# Altium footprint library ZH1.5.PcbLib: 63 footprints (part 4 of 4)
Each footprint in its own frame and in the unit in brackets; x right, y up, seen from the top. Pads: shape width x height; smd on the part's side, far side on the other; paste and mask are expansions set on the pad; w line width, h text height; cw(c..) or ccw(c..) is an arc to the next point about the centre after c.
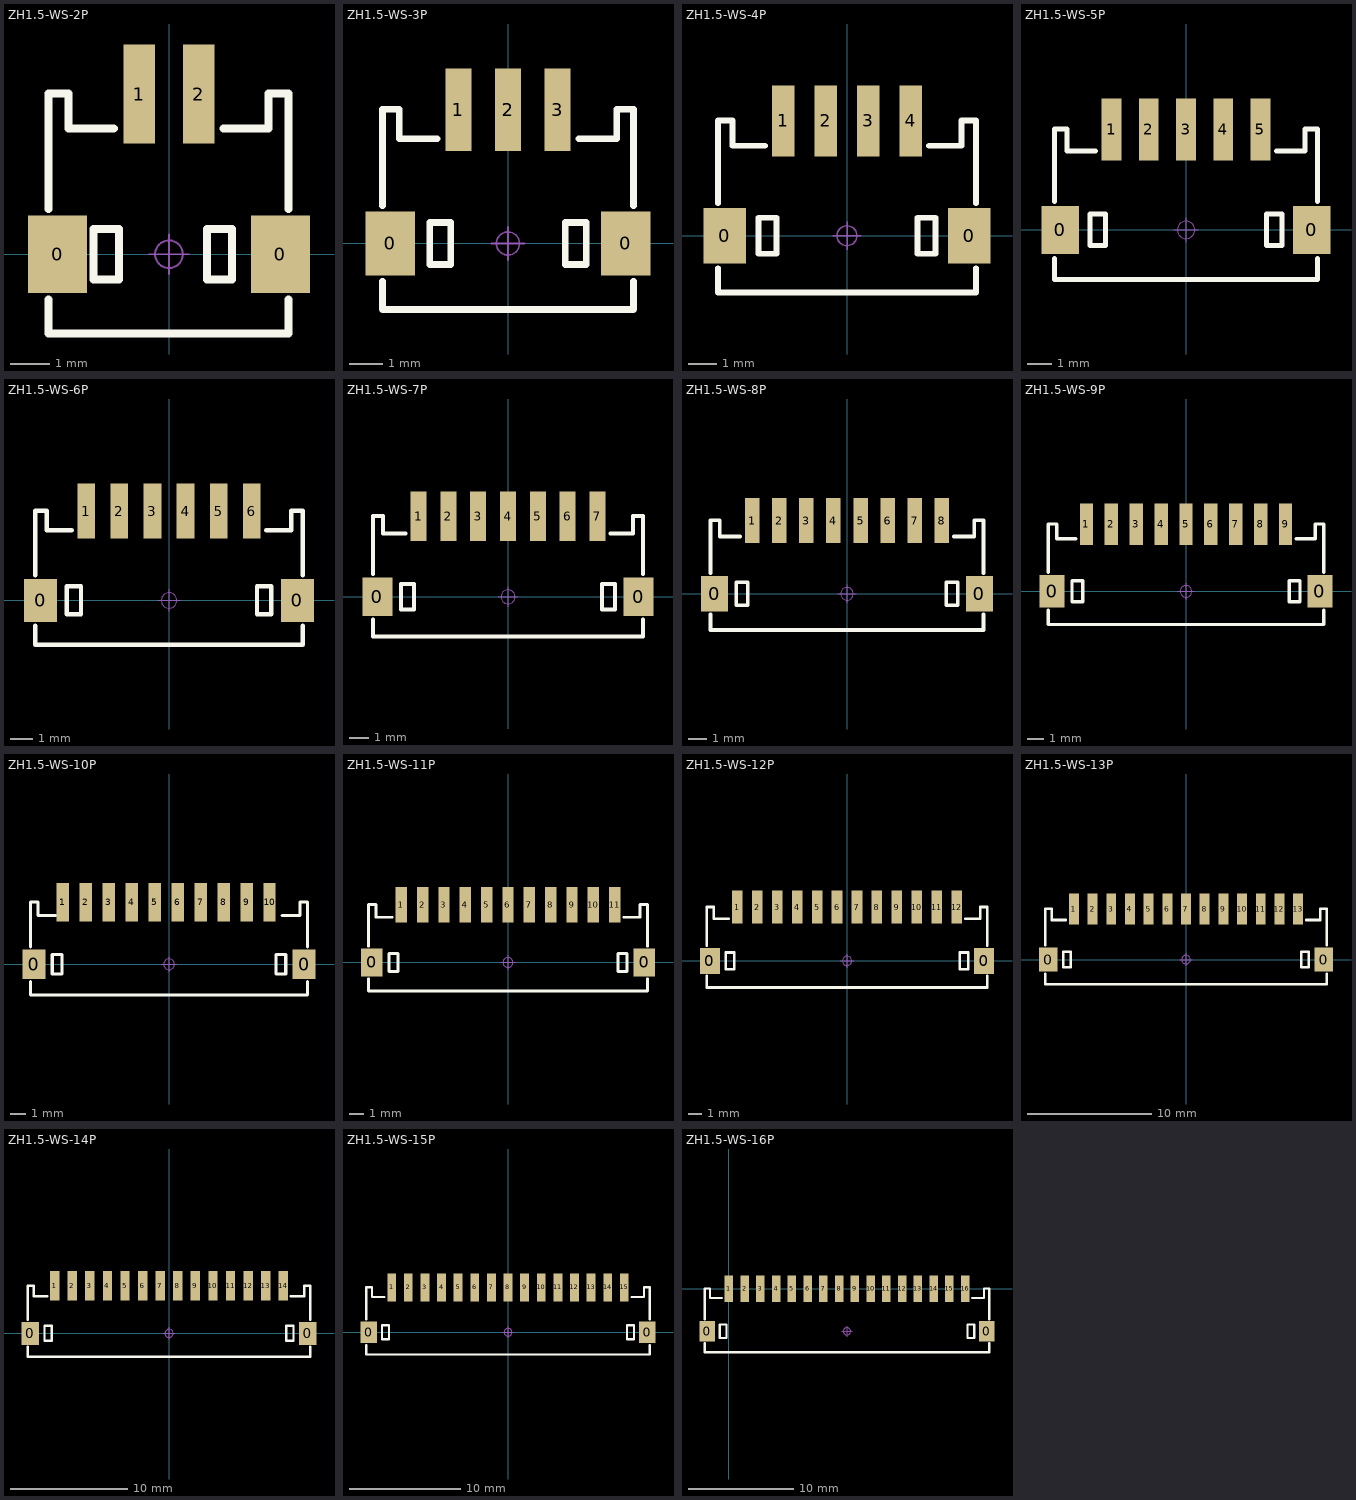
[diagram p3: the footprints below, top view; thin cyan lines are the x and y axes]

## ZH1.5-WS-2P [mm] "长：6.1mm，宽：2.5mm，高：3.7mm"
pads (4):
  rect 1.5x1.95 smd: 0(-2.818,0) 0(2.818,0)
  rect 0.8x2.5 smd: 1(-0.75,4.05) 2(0.75,4.05)
Top Overlay:
  lines w0.203: -3.048,-1.143 -3.05,-1.143 -3.05,-2 3.026,-2 3.026,-1.143 3.024,-1.143 ; -3.048,1.143 -3.05,1.143 -3.05,4.064 -2.54,4.064 -2.54,3.175 -1.397,3.175 ; 1.373,3.175 2.516,3.175 2.516,4.064 3.026,4.064 3.026,1.143 3.024,1.143 ; -1.905,-0.635 -1.905,0.635 -1.27,0.635 -1.27,-0.635 -1.905,-0.635 ; 0.961,-0.635 1.596,-0.635 1.596,0.635 0.961,0.635 0.961,-0.635
Mechanical 15:
  circle w0.05: c0,0 r0.35
  lines w0.05: -0.5,0 0.5,0 ; 0,-0.5 0,0.5
3D body "ZH1.5-WS-2P.STEP": height 3.75, standoff 0, extent -3.05,-2 3.05,4.6

## ZH1.5-WS-3P [mm] "长：7.6mm，宽：6.0mm，高：3.7mm"
pads (5):
  rect 1.5x1.95 smd: 0(-3.568,0) 0(3.568,0)
  rect 0.8x2.5 smd: 1(-1.5,4.05) 2(0,4.05) 3(1.5,4.05)
Top Overlay:
  lines w0.203: -3.798,-2 -3.8,-2 ; -3.798,-1.143 -3.8,-1.143 -3.8,-2 ; -3.798,1.143 -3.8,1.143 -3.8,4.064 -3.29,4.064 -3.29,3.175 -2.147,3.175 ; 2.147,3.175 3.29,3.175 3.29,4.064 3.8,4.064 3.8,1.143 3.798,1.143 ; 3.798,-2 3.8,-2 ; 3.798,-1.143 3.8,-1.143 3.8,-2 ; -3.8,-2 3.8,-2 ; 3.8,-2 3.8,-2 ; -2.37,-0.635 -2.37,0.635 -1.735,0.635 -1.735,-0.635 -2.37,-0.635 ; 1.735,-0.635 2.37,-0.635 2.37,0.635 1.735,0.635 1.735,-0.635
Mechanical 15:
  circle w0.05: c0,0 r0.35
  lines w0.05: -0.5,0 0.5,0 ; 0,-0.5 0,0.5
3D body "ZH1.5-WS-3P.STEP": height 3.75, standoff 0, extent -3.8,-2 3.8,4.6

## ZH1.5-WS-4P [mm] "长：9.1mm，宽：6.0mm，高：3.7mm"
pads (6):
  rect 1.5x1.95 smd: 0(-4.318,0) 0(4.318,0)
  rect 0.8x2.5 smd: 1(-2.25,4.05) 2(-0.75,4.05) 3(0.75,4.05) 4(2.25,4.05)
Top Overlay:
  lines w0.203: -4.548,-2 -4.55,-2 ; -4.548,-1.143 -4.55,-1.143 -4.55,-2 ; -4.548,1.143 -4.55,1.143 -4.55,4.064 -4.04,4.064 -4.04,3.175 -2.897,3.175 ; 2.897,3.175 4.04,3.175 4.04,4.064 4.55,4.064 4.55,1.143 4.548,1.143 ; 4.548,-1.143 4.55,-1.143 4.55,-2 4.548,-2 -4.55,-2 ; -3.12,-0.635 -2.485,-0.635 -2.485,0.635 -3.12,0.635 -3.12,-0.635 ; 2.485,-0.635 3.12,-0.635 3.12,0.635 2.485,0.635 2.485,-0.635
Mechanical 15:
  circle w0.05: c0,0 r0.35
  lines w0.05: -0.5,0 0.5,0 ; 0,-0.5 0,0.5
3D body "ZH1.5-WS-4P.STEP": height 3.75, standoff 0, extent -4.55,-2 4.55,4.6

## ZH1.5-WS-5P [mm] "长：10.6mm，宽：6.0mm，高：3.7mm"
pads (7):
  rect 1.5x1.95 smd: 0(-5.068,0) 0(5.068,0)
  rect 0.8x2.5 smd: 1(-3,4.05) 2(-1.5,4.05) 3(0,4.05) 4(1.5,4.05) 5(3,4.05)
Top Overlay:
  lines w0.203: -5.298,-2 -5.3,-2 ; -5.298,-1.143 -5.3,-1.143 -5.3,-2 ; -5.298,1.143 -5.3,1.143 -5.3,4.064 -4.79,4.064 -4.79,3.175 -3.647,3.175 ; 3.647,3.175 4.79,3.175 4.79,4.064 5.3,4.064 5.3,1.143 5.298,1.143 ; 5.298,-2 5.3,-2 ; 5.298,-1.143 5.3,-1.143 5.3,-2 ; -5.3,-2 5.3,-2 ; -3.87,-0.635 -3.235,-0.635 -3.235,0.635 -3.87,0.635 -3.87,-0.635 ; 3.235,-0.635 3.87,-0.635 3.87,0.635 3.235,0.635 3.235,-0.635
Mechanical 15:
  circle w0.05: c0,0 r0.35
  lines w0.05: -0.5,0 0.5,0 ; 0,-0.5 0,0.5
3D body "ZH1.5-WS-5P.STEP": height 3.75, standoff 0, extent -5.3,-2 5.3,4.6

## ZH1.5-WS-6P [mm] "长：12.1mm，宽：6.0mm，高：3.7mm"
pads (8):
  rect 1.5x1.95 smd: 0(-5.818,0) 0(5.818,0)
  rect 0.8x2.5 smd: 1(-3.75,4.05) 2(-2.25,4.05) 3(-0.75,4.05) 4(0.75,4.05) 5(2.25,4.05) 6(3.75,4.05)
Top Overlay:
  lines w0.203: -6.048,-1.143 -6.05,-1.143 -6.05,-2 -6.048,-2 6.05,-2 ; -6.048,1.143 -6.05,1.143 -6.05,4.064 -5.54,4.064 -5.54,3.175 -4.397,3.175 ; 4.397,3.175 5.54,3.175 5.54,4.064 6.05,4.064 6.05,1.143 6.048,1.143 ; 6.048,-2 6.05,-2 ; 6.048,-1.143 6.05,-1.143 6.05,-2 ; -4.62,-0.635 -3.985,-0.635 -3.985,0.635 -4.62,0.635 -4.62,-0.635 ; 3.985,-0.635 3.985,0.635 4.62,0.635 4.62,-0.635 3.985,-0.635
Mechanical 15:
  circle w0.05: c0,0 r0.35
  lines w0.05: -0.5,0 0.5,0 ; 0,-0.5 0,0.5
3D body "ZH1.5-WS-6P.STEP": height 3.75, standoff 0, extent -6.05,-2 6.05,4.6

## ZH1.5-WS-7P [mm] "长：13.6mm，宽：6.0mm，高：3.7mm"
pads (9):
  rect 1.5x1.95 smd: 0(-6.568,0) 0(6.568,0)
  rect 0.8x2.5 smd: 1(-4.5,4.05) 2(-3,4.05) 3(-1.5,4.05) 4(0,4.05) 5(1.5,4.05) 6(3,4.05) 7(4.5,4.05)
Top Overlay:
  lines w0.203: -6.798,-2 -6.8,-2 ; -6.798,-1.143 -6.8,-1.143 -6.8,-2 ; -6.798,1.143 -6.8,1.143 -6.8,4.064 -6.29,4.064 -6.29,3.175 -5.147,3.175 ; 5.147,3.175 6.29,3.175 6.29,4.064 6.8,4.064 6.8,1.143 6.798,1.143 ; 6.798,-1.143 6.8,-1.143 6.8,-2 6.798,-2 -6.8,-2 ; -5.37,-0.635 -4.735,-0.635 -4.735,0.635 -5.37,0.635 -5.37,-0.635 ; 4.735,-0.635 4.735,0.635 5.37,0.635 5.37,-0.635 4.735,-0.635
Mechanical 15:
  circle w0.05: c0,0 r0.35
  lines w0.05: -0.5,0 0.5,0 ; 0,-0.5 0,0.5
3D body "ZH1.5-WS-7P.STEP": height 3.75, standoff 0, extent -6.8,-2 6.8,4.6

## ZH1.5-WS-8P [mm] "长：15.1mm，宽：6.0mm，高：3.7mm"
pads (10):
  rect 1.5x1.95 smd: 0(-7.318,0) 0(7.318,0)
  rect 0.8x2.5 smd: 1(-5.25,4.05) 2(-3.75,4.05) 3(-2.25,4.05) 4(-0.75,4.05) 5(0.75,4.05) 6(2.25,4.05) 7(3.75,4.05) 8(5.25,4.05)
Top Overlay:
  lines w0.203: -7.548,-2 -7.55,-2 ; -7.548,-1.143 -7.55,-1.143 -7.55,-2 ; -7.548,1.143 -7.55,1.143 -7.55,4.064 -7.04,4.064 -7.04,3.175 -5.897,3.175 ; 5.897,3.175 7.04,3.175 7.04,4.064 7.55,4.064 7.55,1.143 7.548,1.143 ; 7.548,-2 7.55,-2 ; 7.548,-1.143 7.55,-1.143 7.55,-2 ; -7.55,-2 7.55,-2 ; -6.12,-0.635 -5.485,-0.635 -5.485,0.635 -6.12,0.635 -6.12,-0.635 ; 5.485,-0.635 5.485,0.635 6.12,0.635 6.12,-0.635 5.485,-0.635
Mechanical 15:
  circle w0.05: c0,0 r0.35
  lines w0.05: -0.5,0 0.5,0 ; 0,-0.5 0,0.5
3D body "ZH1.5-WS-8P.STEP": height 3.75, standoff 0, extent -7.55,-2 7.55,4.6

## ZH1.5-WS-9P [mm] "长：16.6mm，宽：6.0mm，高：3.7mm"
pads (11):
  rect 1.5x1.95 smd: 0(-8.068,0) 0(8.068,0)
  rect 0.8x2.5 smd: 1(-6,4.05) 2(-4.5,4.05) 3(-3,4.05) 4(-1.5,4.05) 5(0,4.05) 6(1.5,4.05) 7(3,4.05) 8(4.5,4.05) 9(6,4.05)
Top Overlay:
  lines w0.203: -8.298,-1.143 -8.3,-1.143 -8.3,-2 -8.298,-2 8.298,-2 8.3,-2 8.3,-1.143 8.298,-1.143 ; -8.298,1.143 -8.3,1.143 -8.3,4.064 -7.79,4.064 -7.79,3.175 -6.647,3.175 ; 6.647,3.175 7.79,3.175 7.79,4.064 8.3,4.064 8.3,1.143 8.298,1.143 ; -6.87,-0.635 -6.235,-0.635 -6.235,0.635 -6.87,0.635 -6.87,-0.635 ; 6.235,-0.635 6.235,0.635 6.87,0.635 6.87,-0.635 6.235,-0.635
Mechanical 15:
  circle w0.05: c0,0 r0.35
  lines w0.05: -0.5,0 0.5,0 ; 0,-0.5 0,0.5
3D body "ZH1.5-WS-9P.STEP": height 3.75, standoff 0, extent -8.3,-2 8.3,4.6

## ZH1.5-WS-10P [mm] "长：18.1mm，宽：6.0mm，高：3.7mm"
pads (12):
  rect 1.5x1.95 smd: 0(-8.818,0) 0(8.818,0)
  rect 0.8x2.5 smd: 1(-6.932,4.05) 2(-5.432,4.05) 3(-3.932,4.05) 4(-2.432,4.05) 5(-0.932,4.05) 6(0.568,4.05) 7(2.068,4.05) 8(3.568,4.05) 9(5.068,4.05) 10(6.568,4.05)
Top Overlay:
  lines w0.203: -9.048,-1.143 -9.05,-1.143 -9.05,-2 -9.048,-2 9.05,-2 ; -9.048,1.143 -9.05,1.143 -9.05,4.064 -8.54,4.064 -8.54,3.175 -7.397,3.175 ; 7.397,3.175 8.54,3.175 8.54,4.064 9.05,4.064 9.05,1.143 9.048,1.143 ; 9.048,-2 9.05,-2 ; 9.048,-1.143 9.05,-1.143 9.05,-2 ; -7.62,-0.635 -7.62,0.635 -6.985,0.635 -6.985,-0.635 -7.62,-0.635 ; 6.985,-0.635 6.985,0.635 7.62,0.635 7.62,-0.635 6.985,-0.635
Mechanical 15:
  circle w0.05: c0,0 r0.35
  lines w0.05: -0.5,0 0.5,0 ; 0,-0.5 0,0.5
3D body "ZH1.5-WS-10P.STEP": height 3.75, standoff 0, extent -9.05,-2 9.05,4.6

## ZH1.5-WS-11P [mm] "长：19.6mm，宽：6.0mm，高：3.7mm"
pads (13):
  rect 1.5x1.95 smd: 0(-9.568,0) 0(9.568,0)
  rect 0.8x2.5 smd: 1(-7.5,4.05) 2(-6,4.05) 3(-4.5,4.05) 4(-3,4.05) 5(-1.5,4.05) 6(0,4.05) 7(1.5,4.05) 8(3,4.05) 9(4.5,4.05) 10(6,4.05) 11(7.5,4.05)
Top Overlay:
  lines w0.203: -9.798,-2 -9.8,-2 ; -9.798,-1.143 -9.8,-1.143 -9.8,-2 ; -9.798,1.143 -9.8,1.143 -9.8,4.064 -9.29,4.064 -9.29,3.175 -8.147,3.175 ; 8.147,3.175 9.29,3.175 9.29,4.064 9.8,4.064 9.8,1.143 9.798,1.143 ; 9.798,-1.143 9.8,-1.143 9.8,-2 9.798,-2 -9.8,-2 ; -8.37,-0.635 -7.735,-0.635 -7.735,0.635 -8.37,0.635 -8.37,-0.635 ; 7.735,-0.635 8.37,-0.635 8.37,0.635 7.735,0.635 7.735,-0.635
Mechanical 15:
  circle w0.05: c0,0 r0.35
  lines w0.05: -0.5,0 0.5,0 ; 0,-0.5 0,0.5
3D body "ZH1.5-WS-11P.STEP": height 3.75, standoff 0, extent -9.8,-2 9.8,4.6

## ZH1.5-WS-12P [mm] "长：21.1mm，宽：6.0mm，高：3.7mm"
pads (14):
  rect 1.5x1.95 smd: 0(-10.318,0) 0(10.318,0)
  rect 0.8x2.5 smd: 1(-8.25,4.05) 2(-6.75,4.05) 3(-5.25,4.05) 4(-3.75,4.05) 5(-2.25,4.05) 6(-0.75,4.05) 7(0.75,4.05) 8(2.25,4.05) 9(3.75,4.05) 10(5.25,4.05) 11(6.75,4.05) 12(8.25,4.05)
Top Overlay:
  lines w0.203: -10.548,-2 -10.55,-2 ; -10.548,-1.143 -10.55,-1.143 -10.55,-2 ; -10.548,1.143 -10.55,1.143 -10.55,4.064 -10.04,4.064 -10.04,3.175 -8.897,3.175 ; 8.897,3.175 10.04,3.175 10.04,4.064 10.55,4.064 10.55,1.143 10.548,1.143 ; 10.548,-2 10.55,-2 ; 10.548,-1.143 10.55,-1.143 10.55,-2 ; -10.55,-2 10.55,-2 ; -9.12,-0.635 -8.485,-0.635 -8.485,0.635 -9.12,0.635 -9.12,-0.635 ; 8.485,-0.635 9.12,-0.635 9.12,0.635 8.485,0.635 8.485,-0.635
Mechanical 15:
  circle w0.05: c0,0 r0.35
  lines w0.05: -0.5,0 0.5,0 ; 0,-0.5 0,0.5
3D body "ZH1.5-WS-12P.STEP": height 3.75, standoff 0, extent -10.55,-2 10.55,4.6

## ZH1.5-WS-13P [mm] "长：22.6mm，宽：6.0mm，高：3.7mm"
pads (15):
  rect 1.5x1.95 smd: 0(-11.068,0) 0(11.068,0)
  rect 0.8x2.5 smd: 1(-9,4.05) 2(-7.5,4.05) 3(-6,4.05) 4(-4.5,4.05) 5(-3,4.05) 6(-1.5,4.05) 7(0,4.05) 8(1.5,4.05) 9(3,4.05) 10(4.5,4.05) 11(6,4.05) 12(7.5,4.05) 13(9,4.05)
Top Overlay:
  lines w0.203: -11.298,-1.143 -11.3,-1.143 -11.3,-2 -11.298,-2 11.298,-2 11.3,-2 11.3,-1.143 11.298,-1.143 ; -11.298,1.143 -11.3,1.143 -11.3,4.064 -10.79,4.064 -10.79,3.175 -9.647,3.175 ; 9.647,3.175 10.79,3.175 10.79,4.064 11.3,4.064 11.3,1.143 11.298,1.143 ; -9.87,-0.635 -9.235,-0.635 -9.235,0.635 -9.87,0.635 -9.87,-0.635 ; 9.235,-0.635 9.87,-0.635 9.87,0.635 9.235,0.635 9.235,-0.635
Mechanical 15:
  circle w0.05: c0,0 r0.35
  lines w0.05: -0.5,0 0.5,0 ; 0,-0.5 0,0.5
3D body "ZH1.5-WS-13P.STEP": height 3.75, standoff 0, extent -11.3,-2 11.3,4.6

## ZH1.5-WS-14P [mm] "长：24.1mm，宽：6.0mm，高：3.7mm"
pads (16):
  rect 1.5x1.95 smd: 0(-11.818,0) 0(11.818,0)
  rect 0.8x2.5 smd: 1(-9.75,4.05) 2(-8.25,4.05) 3(-6.75,4.05) 4(-5.25,4.05) 5(-3.75,4.05) 6(-2.25,4.05) 7(-0.75,4.05) 8(0.75,4.05) 9(2.25,4.05) 10(3.75,4.05) 11(5.25,4.05) 12(6.75,4.05) 13(8.25,4.05) 14(9.75,4.05)
Top Overlay:
  lines w0.203: -12.048,-2 -12.05,-2 ; -12.048,-1.143 -12.05,-1.143 -12.05,-2 ; -12.048,1.143 -12.05,1.143 -12.05,4.064 -11.54,4.064 -11.54,3.175 -10.397,3.175 ; 10.397,3.175 11.54,3.175 11.54,4.064 12.05,4.064 12.05,1.143 12.048,1.143 ; 12.048,-1.143 12.05,-1.143 12.05,-2 12.048,-2 -12.05,-2 ; -10.62,-0.635 -9.985,-0.635 -9.985,0.635 -10.62,0.635 -10.62,-0.635 ; 9.985,-0.635 10.62,-0.635 10.62,0.635 9.985,0.635 9.985,-0.635
Mechanical 15:
  circle w0.05: c0,0 r0.35
  lines w0.05: -0.5,0 0.5,0 ; 0,-0.5 0,0.5
3D body "ZH1.5-WS-14P.STEP": height 3.75, standoff 0, extent -12.05,-2 12.05,4.6

## ZH1.5-WS-15P [mm] "长：25.5mm，宽：6.0mm，高：3.7mm"
pads (17):
  rect 1.5x1.95 smd: 0(-12.568,0) 0(12.568,0)
  rect 0.8x2.5 smd: 1(-10.5,4.05) 2(-9,4.05) 3(-7.5,4.05) 4(-6,4.05) 5(-4.5,4.05) 6(-3,4.05) 7(-1.5,4.05) 8(0,4.05) 9(1.5,4.05) 10(3,4.05) 11(4.5,4.05) 12(6,4.05) 13(7.5,4.05) 14(9,4.05) 15(10.5,4.05)
Top Overlay:
  lines w0.203: -12.798,-2 -12.8,-2 ; -12.798,-1.143 -12.8,-1.143 -12.8,-2 ; -12.798,1.143 -12.8,1.143 -12.8,4.064 -12.29,4.064 -12.29,3.175 -11.147,3.175 ; 11.147,3.175 12.29,3.175 12.29,4.064 12.8,4.064 12.8,1.143 12.798,1.143 ; 12.798,-1.143 12.8,-1.143 12.8,-2 12.798,-2 -12.8,-2 ; -11.37,-0.635 -10.735,-0.635 -10.735,0.635 -11.37,0.635 -11.37,-0.635 ; 10.735,-0.635 11.37,-0.635 11.37,0.635 10.735,0.635 10.735,-0.635
Mechanical 15:
  circle w0.05: c0,0 r0.35
  lines w0.05: -0.5,0 0.5,0 ; 0,-0.5 0,0.5
3D body "ZH1.5-WS-15P.STEP": height 3.75, standoff 0, extent -12.8,-2 12.8,4.6

## ZH1.5-WS-16P [mm] "长：26.1mm，宽：6.0mm，高：3.7mm"
pads (18):
  rect 1.5x1.95 smd: 0(-2.068,-4.05) 0(24.568,-4.05)
  rect 0.8x2.5 smd: 1(0,0) 2(1.5,0) 3(3,0) 4(4.5,0) 5(6,0) 6(7.5,0) 7(9,0) 8(10.5,0) 9(12,0) 10(13.5,0) 11(15,0) 12(16.5,0) 13(18,0) 14(19.5,0) 15(21,0) 16(22.5,0)
Top Overlay:
  lines w0.203: -2.298,-5.193 -2.3,-5.193 -2.3,-6.05 -2.298,-6.05 24.8,-6.05 ; -2.298,-2.907 -2.3,-2.907 -2.3,0.014 -1.79,0.014 -1.79,-0.875 -0.647,-0.875 ; 23.147,-0.875 24.29,-0.875 24.29,0.014 24.8,0.014 24.8,-2.907 24.798,-2.907 ; 24.798,-6.05 24.8,-6.05 ; 24.798,-5.193 24.8,-5.193 24.8,-6.05 ; 24.8,-6.05 24.8,-6.05 ; -0.87,-4.685 -0.235,-4.685 -0.235,-3.415 -0.87,-3.415 -0.87,-4.685 ; 22.735,-4.685 22.735,-3.415 23.37,-3.415 23.37,-4.685 22.735,-4.685
Mechanical 15:
  circle w0.05: c11.25,-4.05 r0.35
  lines w0.05: 10.75,-4.05 11.75,-4.05 ; 11.25,-4.55 11.25,-3.55
3D body "ZH1.5-WS-16P.STEP": height 3.75, standoff 0, extent -2.3,-6.05 24.8,0.55